# Altium footprint library MS561101BA03-50.PcbLib: 1 footprints
Each footprint in its own frame and in the unit in brackets; x right, y up, seen from the top. Pads: shape width x height; smd on the part's side, far side on the other; paste and mask are expansions set on the pad; w line width, h text height; cw(c..) or ccw(c..) is an arc to the next point about the centre after c.
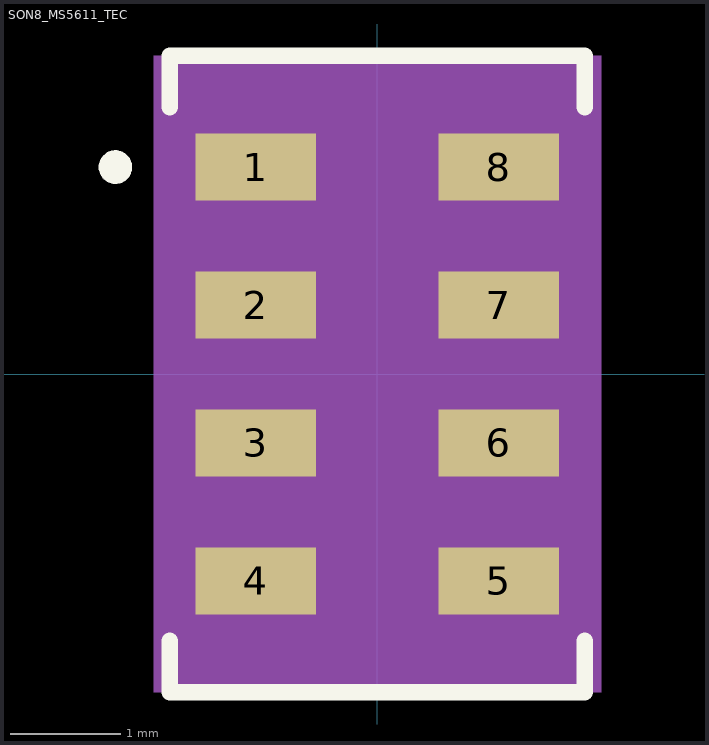
[diagram p0: the footprint, top view; thin cyan lines are the x and y axes]

## SON8_MS5611_TEC [mm]
pads (8):
  rect 1.092x0.61 smd paste-0.305 mask+0: 1(-1.1,1.875) 2(-1.1,0.625) 3(-1.1,-0.625) 4(-1.1,-1.875) 5(1.1,-1.875) 6(1.1,-0.625) 7(1.1,0.625) 8(1.1,1.875)
Top Overlay:
  circle w0.152: c-2.373,1.875 r0.076
  lines w0.152: -1.88,-2.417 -1.88,-2.883 1.88,-2.883 1.88,-2.417 ; -1.88,2.417 -1.88,2.883 1.88,2.883 1.88,2.417
Top Paste:
  region: -0.554,2.18 -1.646,2.18 -1.646,1.57 -0.554,1.57
  region: -0.554,0.93 -1.646,0.93 -1.646,0.32 -0.554,0.32
  region: -0.554,-0.32 -1.646,-0.32 -1.646,-0.93 -0.554,-0.93
  region: -0.554,-1.57 -1.646,-1.57 -1.646,-2.18 -0.554,-2.18
  region: 1.646,-1.57 0.554,-1.57 0.554,-2.18 1.646,-2.18
  region: 1.646,-0.32 0.554,-0.32 0.554,-0.93 1.646,-0.93
  region: 1.646,0.93 0.554,0.93 0.554,0.32 1.646,0.32
  region: 1.646,2.18 0.554,2.18 0.554,1.57 1.646,1.57
Top Solder:
  region: -0.554,2.18 -1.646,2.18 -1.646,1.57 -0.554,1.57
  region: -0.554,0.93 -1.646,0.93 -1.646,0.32 -0.554,0.32
  region: -0.554,-0.32 -1.646,-0.32 -1.646,-0.93 -0.554,-0.93
  region: -0.554,-1.57 -1.646,-1.57 -1.646,-2.18 -0.554,-2.18
  region: 1.646,-1.57 0.554,-1.57 0.554,-2.18 1.646,-2.18
  region: 1.646,-0.32 0.554,-0.32 0.554,-0.93 1.646,-0.93
  region: 1.646,0.93 0.554,0.93 0.554,0.32 1.646,0.32
  region: 1.646,2.18 0.554,2.18 0.554,1.57 1.646,1.57
Mechanical 5:
  region: 2.027,-2.883 -2.027,-2.883 -2.027,2.883 2.027,2.883
Mechanical 13:
  circle w0: c-0.254,1.875 r0.076
  lines w0: -0.305,2.502 ccw(c0,2.502) 0.305,2.502
  lines w0.025: -1.499,-2.502 1.499,-2.502 1.499,2.502 -1.499,2.502 -1.499,-2.502
Mechanical 15:
  region: -1.753,-2.551 -1.9,-2.551 -1.9,2.551 -1.753,2.551 -1.753,2.756 1.753,2.756 1.753,2.551 1.9,2.551 1.9,-2.551 1.753,-2.551 1.753,-2.756 -1.753,-2.756
  lines w0.152: -1.9,-2.551 -1.9,2.551 -1.753,2.551 -1.753,2.756 1.753,2.756 1.753,2.551 1.9,2.551 1.9,-2.551 1.753,-2.551 1.753,-2.756 -1.753,-2.756 -1.753,-2.551 -1.9,-2.551
3D body: height 0.25, standoff 0, extent 0,0 0.254,0.254